# EAGLE library part G6S-2_DC4.5 (library G6S-2)
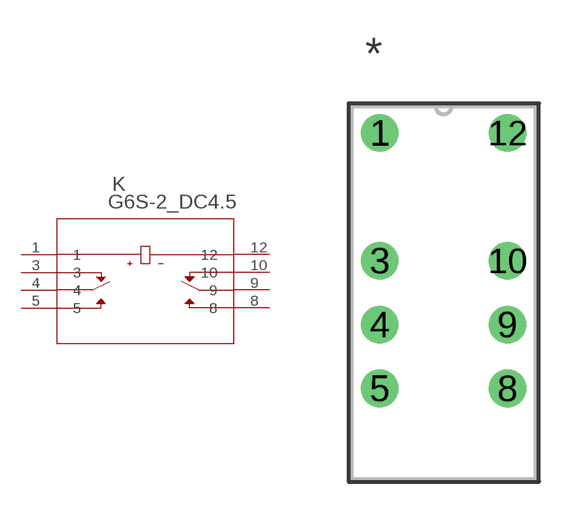
[diagram p0: symbol with the pads of RELAY_G6S-2_OMR; footprint RELAY_G6S-2_OMR]

Designator prefix K

## G6S-2_DC4.5 (BUILT_BY: EMA_Justin; COPYRIGHT: Copyright (C) 2018 Accelerated Designs. All rights reserved; MANUFACTURER_PART_NUMBER: G6S-2 DC4.5; SOURCELIBRARY: Omron_2020-03-12; VENDOR: Omron)  [RELAY_G6S-2_OMR]
1  1  pas
3  3  pas
4  4  pas
5  5  pas
8  8  pas
9  9  pas
10  10  pas
12  12  pas

## Footprint RELAY_G6S-2_OMR (pad centres in mm)
drill 0.991 pad 1.499: 1 -5.08,12.7; 3 -5.08,7.62; 4 -5.08,5.08; 5 -5.08,2.54; 8 0,2.54; 9 0,5.08; 10 0,7.62; 12 0,12.7